# Altium integrated library Maxim Digital Potentiometers.IntLib: 1045 symbols (part 10 of 42)
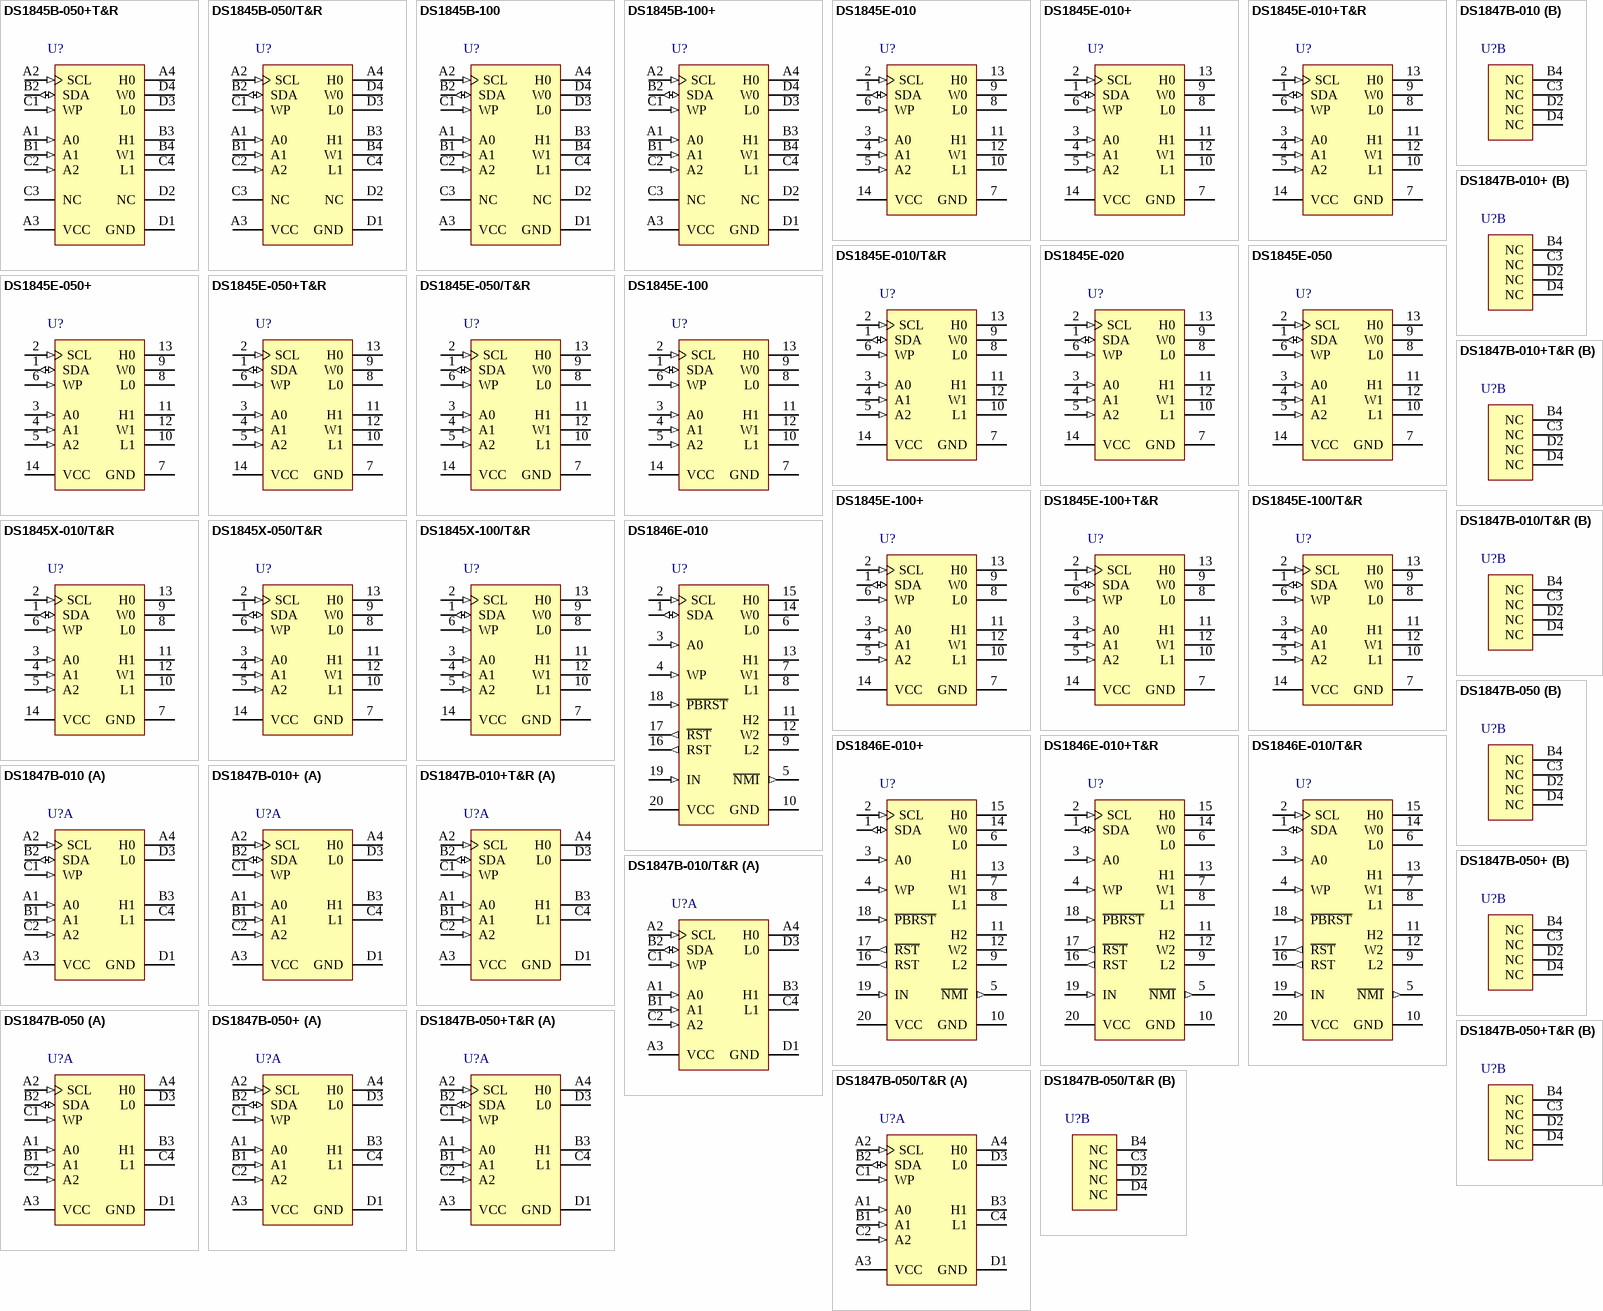
[diagram p38: symbols DS1845B-050+T&R to DS1847B-050/T&R]

## DS1845X-010/T&R
designator U?
Dual NV Potentiometer and Memory with 2-Wire Addressable Control Interface, Non-Volatile, Linear Taper, 100+256 Steps, -40 to 85 degC, 14-pin FCHIP (BF1422-1), Tape and Reel; PartNumber: DS1845X-010/T&R; DatasheetVersion: Rev. 3; PackageVersion: Rev. B, 09/2010; PackageReference: BF1422-1; PackageDescription: 14-Pin Flip-Chip, Used for DS1845X (BF1422-1), Body 2.11 x 2.34 mm, Pitch 0.52 mm; Supplier 1: Digi-Key; Supplier Part Number 1: DS1845X-010/T&R-ND; Supplier 2: Mouser; Supplier Part Number 2: N/A; Applications: Fiber Communications, GBIC; Control Interface: 2-Wire Addressable; Features: 256-Byte User EEPROM, EEPROM Wiper Memory; Mounting Technology: Surface Mount; ComponentLink1Description: Manufacturer URL; ComponentLink1URL: http://www.maximintegrated.com/; ComponentLink2Description: Datasheet; ComponentLink2URL: http://datasheets.maximintegrated.com/en/ds/DS1845.pdf; ComponentLink3Description: Package Specification; ComponentLink3URL: http://pdfserv.maximintegrated.com/package_dwgs/21-0285.PDF
footprint MAXM-BF1422-1 (BGA, Body 2.109 x 2.338 mm)
pins: 1 SDA (io) "2-Wire serial data interface. The serial data pin is for serial data transfer to and from the DS1855. The pin is open drain and may be wire-ORed with other open drain or open collector interfaces.", 2 SCL (in) "2-Wire Serial Clock Input. The serial clock input is used to clock data into the DS1855 on rising edges and clock data out on falling edges.", 3 A0 (in) "Address Input. Pins A0, A1, and A2 are used to specify the address of each DS1855 when used in a multi-dropped configuration. Up to eight DS1855s may be addressed on a single 2-wire bus.", 4 A1 (in) "Address Input.", 5 A2 (in) "Address Input.", 6 WP (in) "Write Protect Input. If set to logic 0, the data in memory and the potentiometer wiper setting may be changed. If set to logic 1, both the memory and the potentiometer wiper settings will be write protected. The WP pin is (See Datasheet)", 7 GND (power) "Ground Terminal.", 8 L0 "Low terminal of Potentiometer 0. For both potentiometers, it is not required that the low terminal be connected to a potential less than the high terminal. Voltage applied to the low terminal of each potentiometer cannot (See Datasheet)", 9 W0 "Wiper terminal of Pot 0. The wiper position of Potentiometer 0 is determined by the byte at EEPROM memory location F9h. Voltage applied to the wiper terminal of each potentiometer cannot exceed the power supply voltage, VCC, (See Datasheet)", 10 L1 "Low terminal of Potentiometer 1.", 11 H1 "High terminal of Potentiometer 1.", 12 W1 "Wiper terminal of Pot 1. The wiper position of Potentiometer 1 is determined by the byte at EEPROM memory location F8h.", 13 H0 "High terminal of Potentiometer 0. For both potentiometers, it is not required that the high terminal be connected to a potential greater than the low terminal. Voltage applied to the high terminal of each potentiometer (See Datasheet)", 14 VCC (power) "Power Supply Terminal. The DS1855 will support supply voltages ranging from +2.7V to +5.5V."

## DS1845X-050/T&R
designator U?
Dual NV Potentiometer and Memory with 2-Wire Addressable Control Interface, Non-Volatile, Linear Taper, 100+256 Steps, -40 to 85 degC, 14-pin FCHIP (BF1422-1), Tape and Reel; PartNumber: DS1845X-050/T&R; DatasheetVersion: Rev. 3; PackageVersion: Rev. B, 09/2010; PackageReference: BF1422-1; PackageDescription: 14-Pin Flip-Chip, Used for DS1845X (BF1422-1), Body 2.11 x 2.34 mm, Pitch 0.52 mm; Supplier 1: Digi-Key; Supplier Part Number 1: DS1845X-050/T&R-ND; Supplier 2: Mouser; Supplier Part Number 2: N/A; Applications: Fiber Communications, GBIC; Control Interface: 2-Wire Addressable; Features: 256-Byte User EEPROM, EEPROM Wiper Memory; Mounting Technology: Surface Mount; ComponentLink1Description: Manufacturer URL; ComponentLink1URL: http://www.maximintegrated.com/; ComponentLink2Description: Datasheet; ComponentLink2URL: http://datasheets.maximintegrated.com/en/ds/DS1845.pdf; ComponentLink3Description: Package Specification; ComponentLink3URL: http://pdfserv.maximintegrated.com/package_dwgs/21-0285.PDF
footprint MAXM-BF1422-1 (BGA, Body 2.109 x 2.338 mm)
pins: 1 SDA (io) "2-Wire serial data interface. The serial data pin is for serial data transfer to and from the DS1855. The pin is open drain and may be wire-ORed with other open drain or open collector interfaces.", 2 SCL (in) "2-Wire Serial Clock Input. The serial clock input is used to clock data into the DS1855 on rising edges and clock data out on falling edges.", 3 A0 (in) "Address Input. Pins A0, A1, and A2 are used to specify the address of each DS1855 when used in a multi-dropped configuration. Up to eight DS1855s may be addressed on a single 2-wire bus.", 4 A1 (in) "Address Input.", 5 A2 (in) "Address Input.", 6 WP (in) "Write Protect Input. If set to logic 0, the data in memory and the potentiometer wiper setting may be changed. If set to logic 1, both the memory and the potentiometer wiper settings will be write protected. The WP pin is (See Datasheet)", 7 GND (power) "Ground Terminal.", 8 L0 "Low terminal of Potentiometer 0. For both potentiometers, it is not required that the low terminal be connected to a potential less than the high terminal. Voltage applied to the low terminal of each potentiometer cannot (See Datasheet)", 9 W0 "Wiper terminal of Pot 0. The wiper position of Potentiometer 0 is determined by the byte at EEPROM memory location F9h. Voltage applied to the wiper terminal of each potentiometer cannot exceed the power supply voltage, VCC, (See Datasheet)", 10 L1 "Low terminal of Potentiometer 1.", 11 H1 "High terminal of Potentiometer 1.", 12 W1 "Wiper terminal of Pot 1. The wiper position of Potentiometer 1 is determined by the byte at EEPROM memory location F8h.", 13 H0 "High terminal of Potentiometer 0. For both potentiometers, it is not required that the high terminal be connected to a potential greater than the low terminal. Voltage applied to the high terminal of each potentiometer (See Datasheet)", 14 VCC (power) "Power Supply Terminal. The DS1855 will support supply voltages ranging from +2.7V to +5.5V."

## DS1845X-100/T&R
designator U?
Dual NV Potentiometer and Memory with 2-Wire Addressable Control Interface, Non-Volatile, Linear Taper, 100+256 Steps, -40 to 85 degC, 14-pin FCHIP (BF1422-1), Tape and Reel; PartNumber: DS1845X-100/T&R; DatasheetVersion: Rev. 3; PackageVersion: Rev. B, 09/2010; PackageReference: BF1422-1; PackageDescription: 14-Pin Flip-Chip, Used for DS1845X (BF1422-1), Body 2.11 x 2.34 mm, Pitch 0.52 mm; Supplier 1: Digi-Key; Supplier Part Number 1: DS1845X-100/T&R-ND; Supplier 2: Mouser; Supplier Part Number 2: N/A; Applications: Fiber Communications, GBIC; Control Interface: 2-Wire Addressable; Features: 256-Byte User EEPROM, EEPROM Wiper Memory; Mounting Technology: Surface Mount; ComponentLink1Description: Manufacturer URL; ComponentLink1URL: http://www.maximintegrated.com/; ComponentLink2Description: Datasheet; ComponentLink2URL: http://datasheets.maximintegrated.com/en/ds/DS1845.pdf; ComponentLink3Description: Package Specification; ComponentLink3URL: http://pdfserv.maximintegrated.com/package_dwgs/21-0285.PDF
footprint MAXM-BF1422-1 (BGA, Body 2.109 x 2.338 mm)
pins: 1 SDA (io) "2-Wire serial data interface. The serial data pin is for serial data transfer to and from the DS1855. The pin is open drain and may be wire-ORed with other open drain or open collector interfaces.", 2 SCL (in) "2-Wire Serial Clock Input. The serial clock input is used to clock data into the DS1855 on rising edges and clock data out on falling edges.", 3 A0 (in) "Address Input. Pins A0, A1, and A2 are used to specify the address of each DS1855 when used in a multi-dropped configuration. Up to eight DS1855s may be addressed on a single 2-wire bus.", 4 A1 (in) "Address Input.", 5 A2 (in) "Address Input.", 6 WP (in) "Write Protect Input. If set to logic 0, the data in memory and the potentiometer wiper setting may be changed. If set to logic 1, both the memory and the potentiometer wiper settings will be write protected. The WP pin is (See Datasheet)", 7 GND (power) "Ground Terminal.", 8 L0 "Low terminal of Potentiometer 0. For both potentiometers, it is not required that the low terminal be connected to a potential less than the high terminal. Voltage applied to the low terminal of each potentiometer cannot (See Datasheet)", 9 W0 "Wiper terminal of Pot 0. The wiper position of Potentiometer 0 is determined by the byte at EEPROM memory location F9h. Voltage applied to the wiper terminal of each potentiometer cannot exceed the power supply voltage, VCC, (See Datasheet)", 10 L1 "Low terminal of Potentiometer 1.", 11 H1 "High terminal of Potentiometer 1.", 12 W1 "Wiper terminal of Pot 1. The wiper position of Potentiometer 1 is determined by the byte at EEPROM memory location F8h.", 13 H0 "High terminal of Potentiometer 0. For both potentiometers, it is not required that the high terminal be connected to a potential greater than the low terminal. Voltage applied to the high terminal of each potentiometer (See Datasheet)", 14 VCC (power) "Power Supply Terminal. The DS1855 will support supply voltages ranging from +2.7V to +5.5V."

## DS1846E-010
designator U?
Tri-Potentiometer, Memory, and MicroMonitor with 2-Wire Addressable Control Interface, Non-Volatile, Linear Taper, 100+256 Steps, -40 to 85 degC, 20-pin TSSOP (U20-1); PartNumber: DS1846E-010; DatasheetVersion: Rev. 1; PackageVersion: Rev. L, 07/2010; PackageReference: U20-1; PackageDescription: 20-Pin Thin Shrink Small-Outline Package (U20-1), Body 6.5 x 4.4 mm, Pitch 0.65 mm; Supplier 1: Mouser; Supplier Part Number 1: N/A; Applications: Fiber Communications, Microprocessor Reset ,Pwr-Fail Detect; Control Interface: 2-Wire Addressable; Features: 256-Byte User EEPROM, EEPROM Wiper Memory; Mounting Technology: Surface Mount; Code_JEDEC: MO-153; ComponentLink1Description: Manufacturer URL; ComponentLink1URL: http://www.maximintegrated.com/; ComponentLink2Description: Datasheet; ComponentLink2URL: http://datasheets.maximintegrated.com/en/ds/DS1846.pdf; ComponentLink3Description: Package Specification; ComponentLink3URL: http://pdfserv.maximintegrated.com/package_dwgs/21-0066.PDF
footprint MAXM-U20-1_N (SOP, 20-Leads, Body 6.5x4.40mm, Pitch 0.65mm, IPC Medium Density)
footprint MAXM-U20-1_L (SOP, 20-Leads, Body 6.5x4.40mm, Pitch 0.65mm, IPC High Density)
footprint MAXM-U20-1_M (SOP, 20-Leads, Body 6.5x4.40mm, Pitch 0.65mm, IPC Low Density)
pins: 1 SDA (io) "2-Wire Serial Data Input/Output", 2 SCL (in) "2-Wire Serial Clock Input", 3 A0 (in) "Address Input", 4 WP (in) "Write-Protect Input", 5 ~{NMI} (out) "Nonmaskable Interrupt Output", 6 L0 "Low End of Potentiometer", 7 W1 "Wiper Terminal of Potentiometer", 8 L1 "Low End of Potentiometer", 9 L2 "Low End of Potentiometer", 10 GND (power) "Ground", 11 H2 "High End of Potentiometer", 12 W2 "Wiper Terminal of Potentiometer", 13 H1 "High End of Potentiometer", 14 W0 "Wiper Terminal of Potentiometer", 15 H0 "High End of Potentiometer", 16 RST (out) "Active-High Reset Output", 17 ~{RST} (out) "Active-Low Reset Output", 18 ~{PBRST} (in) "Pushbutton Reset Input", 19 IN (in) "NMI Voltage Input", 20 VCC (power) "Power-Supply Input"

## DS1846E-010+
designator U?
Tri-Potentiometer, Memory, and MicroMonitor with 2-Wire Addressable Control Interface, Non-Volatile, Linear Taper, 100+256 Steps, -40 to 85 degC, 20-pin TSSOP (U20+1), Pb-Free; PartNumber: DS1846E-010+; DatasheetVersion: Rev. 1; PackageVersion: Rev. L, 07/2010; PackageReference: U20+1; PackageDescription: 20-Pin Thin Shrink Small-Outline Package (U20+1), Body 6.5 x4.4 mm, Pitch 0.65 mm; Supplier 1: Digi-Key; Supplier Part Number 1: DS1846E-010+-ND; Supplier 2: Mouser; Supplier Part Number 2: 700-DS1846E-010; Applications: Fiber Communications, Microprocessor Reset ,Pwr-Fail Detect; Control Interface: 2-Wire Addressable; Features: 256-Byte User EEPROM, EEPROM Wiper Memory; Mounting Technology: Surface Mount; Code_JEDEC: MO-153; ComponentLink1Description: Manufacturer URL; ComponentLink1URL: http://www.maximintegrated.com/; ComponentLink2Description: Datasheet; ComponentLink2URL: http://datasheets.maximintegrated.com/en/ds/DS1846.pdf; ComponentLink3Description: Package Specification; ComponentLink3URL: http://pdfserv.maximintegrated.com/package_dwgs/21-0066.PDF
footprint MAXM-U20+1_N (SOP, 20-Leads, Body 6.5x4.4mm, Pitch 0.65mm, IPC Medium Density)
footprint MAXM-U20+1_L (SOP, 20-Leads, Body 6.5x4.4mm, Pitch 0.65mm, IPC High Density)
footprint MAXM-U20+1_M (SOP, 20-Leads, Body 6.5x4.4mm, Pitch 0.65mm, IPC Low Density)
pins: 1 SDA (io) "2-Wire Serial Data Input/Output", 2 SCL (in) "2-Wire Serial Clock Input", 3 A0 (in) "Address Input", 4 WP (in) "Write-Protect Input", 5 ~{NMI} (out) "Nonmaskable Interrupt Output", 6 L0 "Low End of Potentiometer", 7 W1 "Wiper Terminal of Potentiometer", 8 L1 "Low End of Potentiometer", 9 L2 "Low End of Potentiometer", 10 GND (power) "Ground", 11 H2 "High End of Potentiometer", 12 W2 "Wiper Terminal of Potentiometer", 13 H1 "High End of Potentiometer", 14 W0 "Wiper Terminal of Potentiometer", 15 H0 "High End of Potentiometer", 16 RST (out) "Active-High Reset Output", 17 ~{RST} (out) "Active-Low Reset Output", 18 ~{PBRST} (in) "Pushbutton Reset Input", 19 IN (in) "NMI Voltage Input", 20 VCC (power) "Power-Supply Input"

## DS1846E-010+T&R
designator U?
Tri-Potentiometer, Memory and MicroMonitor with 2-Wire Addressable Control Interface, Non-Volatile, Linear Taper, 100+256 Steps, -40 to 85 degC, 20-pin TSSOP (U20+1), Pb-Free, Tape and Reel; PartNumber: DS1846E-010+T&R; DatasheetVersion: Rev. 1; PackageVersion: Rev. L, 07/2010; PackageReference: U20+1; PackageDescription: 20-Pin Thin Shrink Small-Outline Package (U20+1), Body 6.5 x4.4 mm, Pitch 0.65 mm; Supplier 1: Digi-Key; Supplier Part Number 1: DS1846E-010+T&R-ND; Supplier 2: Mouser; Supplier Part Number 2: 700-DS1846E-010T&R; Applications: Fiber Communications, Microprocessor Reset ,Pwr-Fail Detect; Control Interface: 2-Wire Addressable; Features: 256-Byte User EEPROM, EEPROM Wiper Memory; Mounting Technology: Surface Mount; Code_JEDEC: MO-153; ComponentLink1Description: Manufacturer URL; ComponentLink1URL: http://www.maximintegrated.com/; ComponentLink2Description: Datasheet; ComponentLink2URL: http://datasheets.maximintegrated.com/en/ds/DS1846.pdf; ComponentLink3Description: Package Specification; ComponentLink3URL: http://pdfserv.maximintegrated.com/package_dwgs/21-0066.PDF
footprint MAXM-U20+1_N (SOP, 20-Leads, Body 6.5x4.4mm, Pitch 0.65mm, IPC Medium Density)
footprint MAXM-U20+1_L (SOP, 20-Leads, Body 6.5x4.4mm, Pitch 0.65mm, IPC High Density)
footprint MAXM-U20+1_M (SOP, 20-Leads, Body 6.5x4.4mm, Pitch 0.65mm, IPC Low Density)
pins: 1 SDA (io) "2-Wire Serial Data Input/Output", 2 SCL (in) "2-Wire Serial Clock Input", 3 A0 (in) "Address Input", 4 WP (in) "Write-Protect Input", 5 ~{NMI} (out) "Nonmaskable Interrupt Output", 6 L0 "Low End of Potentiometer", 7 W1 "Wiper Terminal of Potentiometer", 8 L1 "Low End of Potentiometer", 9 L2 "Low End of Potentiometer", 10 GND (power) "Ground", 11 H2 "High End of Potentiometer", 12 W2 "Wiper Terminal of Potentiometer", 13 H1 "High End of Potentiometer", 14 W0 "Wiper Terminal of Potentiometer", 15 H0 "High End of Potentiometer", 16 RST (out) "Active-High Reset Output", 17 ~{RST} (out) "Active-Low Reset Output", 18 ~{PBRST} (in) "Pushbutton Reset Input", 19 IN (in) "NMI Voltage Input", 20 VCC (power) "Power-Supply Input"

## DS1846E-010/T&R
designator U?
Tri-Potentiometer, Memory and MicroMonitor with 2-Wire Addressable Control Interface, Non-Volatile, Linear Taper, 100+256 Steps, -40 to 85 degC, 20-pin TSSOP (U20-1), Tape and Reel; PartNumber: DS1846E-010/T&R; DatasheetVersion: Rev. 1; PackageVersion: Rev. L, 07/2010; PackageReference: U20-1; PackageDescription: 20-Pin Thin Shrink Small-Outline Package (U20-1), Body 6.5 x 4.4 mm, Pitch 0.65 mm; Applications: Fiber Communications, Microprocessor Reset ,Pwr-Fail Detect; Control Interface: 2-Wire Addressable; Features: 256-Byte User EEPROM, EEPROM Wiper Memory; Mounting Technology: Surface Mount; Code_JEDEC: MO-153; ComponentLink1Description: Manufacturer URL; ComponentLink1URL: http://www.maximintegrated.com/; ComponentLink2Description: Datasheet; ComponentLink2URL: http://datasheets.maximintegrated.com/en/ds/DS1846.pdf; ComponentLink3Description: Package Specification; ComponentLink3URL: http://pdfserv.maximintegrated.com/package_dwgs/21-0066.PDF
footprint MAXM-U20-1_N (SOP, 20-Leads, Body 6.5x4.40mm, Pitch 0.65mm, IPC Medium Density)
footprint MAXM-U20-1_L (SOP, 20-Leads, Body 6.5x4.40mm, Pitch 0.65mm, IPC High Density)
footprint MAXM-U20-1_M (SOP, 20-Leads, Body 6.5x4.40mm, Pitch 0.65mm, IPC Low Density)
pins: 1 SDA (io) "2-Wire Serial Data Input/Output", 2 SCL (in) "2-Wire Serial Clock Input", 3 A0 (in) "Address Input", 4 WP (in) "Write-Protect Input", 5 ~{NMI} (out) "Nonmaskable Interrupt Output", 6 L0 "Low End of Potentiometer", 7 W1 "Wiper Terminal of Potentiometer", 8 L1 "Low End of Potentiometer", 9 L2 "Low End of Potentiometer", 10 GND (power) "Ground", 11 H2 "High End of Potentiometer", 12 W2 "Wiper Terminal of Potentiometer", 13 H1 "High End of Potentiometer", 14 W0 "Wiper Terminal of Potentiometer", 15 H0 "High End of Potentiometer", 16 RST (out) "Active-High Reset Output", 17 ~{RST} (out) "Active-Low Reset Output", 18 ~{PBRST} (in) "Pushbutton Reset Input", 19 IN (in) "NMI Voltage Input", 20 VCC (power) "Power-Supply Input"

## DS1847B-010
designator U?
Dual Temperature-Controlled NV Variable Resistor with 2-Wire Addressable Control Interface, Non-Volatile, Linear Taper, 256 Steps, -40 to 85 degC, 16-pin CSBGA (X16-1); PartNumber: DS1847B-010; DatasheetVersion: Rev. 2; PackageVersion: Rev. B, 06/2010; PackageReference: X16-1; PackageDescription: 16-Ball Chip-Scale Ball-Grid Array (X16-1), Body 4 x 4 mm, Pitch 1.0 mm; Supplier 1: Mouser; Supplier Part Number 1: N/A; Applications: Fiber Communications, Resistance-Temp. Lookup Table; Control Interface: 2-Wire Addressable; Features: 128-Byte User EEPROM, EEPROM Wiper Memory ,Resistance-Temp. Lookup Table; Mounting Technology: Surface Mount; ComponentLink1Description: Manufacturer URL; ComponentLink1URL: http://www.maximintegrated.com/; ComponentLink2Description: Datasheet; ComponentLink2URL: http://datasheets.maximintegrated.com/en/ds/DS1847.pdf; ComponentLink3Description: Package Specification; ComponentLink3URL: http://pdfserv.maximintegrated.com/package_dwgs/21-0355.PDF
footprint MAXM-X16-1 (BGA, 16-Balls, Body 4x4mm, Pitch 1.0mm)
part A pins: A1 A0 (in) "Address Input. Pins A0, A1, and A2 are used to specify the address of each DS1847/DS1848 when used in a multi-dropped configuration.", A2 SCL (in) "2-Wire Serial Clock Input. The serial clock input is used to clock data into the DS1847/DS1848 on rising edges and clock data out on falling edges.", A3 VCC (power) "Power Supply Terminal. The DS1847/DS1848 will support supply voltages ranging from +3.0V to +5.5V.", A4 H0 "High terminal of Resistor 0. For both resistors, it is not required that the high terminal be connected to a potential greater than the low terminal. Voltage applied to the high terminal of each resistor cannot exceed VCC, (See Datasheet)", B1 A1 (in) "Address Input.", B2 SDA (io) "2-Wire Serial Data Interface. The serial data pin is for serial data transfer to and from the DS1847/DS1848. The pin is open drain and maybe wire-ORed with other open drain or open collector interfaces.", B3 H1 "High terminal of Resistor 1.", C1 WP (in) "Write Protect Input. If open or set to logic 1, all memory, control registers, and Look-up tables are write protected. If set to a logic 0, the device is not write protected and can be written to. The WP pin is pulled high (See Datasheet)", C2 A2 (in) "Address Input.", C4 L1 "Low terminal of Resistor 1.", D1 GND (power) "Ground Terminal.", D3 L0 "Low terminal of Resistor 0. For both resistors, it is not required that the low terminal be connected to a potential less than the high terminal. Voltage applied to the low terminal of each resistor cannot exceed VCC, or go (See Datasheet)"
part B pins: B4 NC "No Connect.", C3 NC "No Connect.", D2 NC "No Connect.", D4 NC "No Connect."

## DS1847B-010+
designator U?
Dual Temperature-Controlled NV Variable Resistor with 2-Wire Addressable Control Interface, Non-Volatile, Linear Taper, 256 Steps, -40 to 85 degC, 16-pin CSBGA (X16+1), Pb-Free; PartNumber: DS1847B-010+; DatasheetVersion: Rev. 2; PackageVersion: Rev. B, 06/2010; PackageReference: X16+1; PackageDescription: 16-Ball Chip-Scale Ball-Grid Array (X16+1), Body 4 x 4 mm, Pitch 1.0 mm; Supplier 1: Digi-Key; Supplier Part Number 1: DS1847B-010+-ND; Supplier 2: Mouser; Supplier Part Number 2: 700-DS1847B-010; Applications: Fiber Communications, Resistance-Temp. Lookup Table; Control Interface: 2-Wire Addressable; Features: 128-Byte User EEPROM, EEPROM Wiper Memory ,Resistance-Temp. Lookup Table; Mounting Technology: Surface Mount; ComponentLink1Description: Manufacturer URL; ComponentLink1URL: http://www.maximintegrated.com/; ComponentLink2Description: Datasheet; ComponentLink2URL: http://datasheets.maximintegrated.com/en/ds/DS1847.pdf; ComponentLink3Description: Package Specification; ComponentLink3URL: http://pdfserv.maximintegrated.com/package_dwgs/21-0355.PDF
footprint MAXM-X16+1 (BGA, 16-Balls, Body 4x4mm, Pitch 1.0mm)
part A pins: A1 A0 (in) "Address Input. Pins A0, A1, and A2 are used to specify the address of each DS1847/DS1848 when used in a multi-dropped configuration.", A2 SCL (in) "2-Wire Serial Clock Input. The serial clock input is used to clock data into the DS1847/DS1848 on rising edges and clock data out on falling edges.", A3 VCC (power) "Power Supply Terminal. The DS1847/DS1848 will support supply voltages ranging from +3.0V to +5.5V.", A4 H0 "High terminal of Resistor 0. For both resistors, it is not required that the high terminal be connected to a potential greater than the low terminal. Voltage applied to the high terminal of each resistor cannot exceed VCC, (See Datasheet)", B1 A1 (in) "Address Input.", B2 SDA (io) "2-Wire Serial Data Interface. The serial data pin is for serial data transfer to and from the DS1847/DS1848. The pin is open drain and maybe wire-ORed with other open drain or open collector interfaces.", B3 H1 "High terminal of Resistor 1.", C1 WP (in) "Write Protect Input. If open or set to logic 1, all memory, control registers, and Look-up tables are write protected. If set to a logic 0, the device is not write protected and can be written to. The WP pin is pulled high (See Datasheet)", C2 A2 (in) "Address Input.", C4 L1 "Low terminal of Resistor 1.", D1 GND (power) "Ground Terminal.", D3 L0 "Low terminal of Resistor 0. For both resistors, it is not required that the low terminal be connected to a potential less than the high terminal. Voltage applied to the low terminal of each resistor cannot exceed VCC, or go (See Datasheet)"
part B pins: B4 NC "No Connect.", C3 NC "No Connect.", D2 NC "No Connect.", D4 NC "No Connect."

## DS1847B-010+T&R
designator U?
Dual Temperature-Controlled NV Variable Resistor with 2-Wire Addressable Control Interface, Non-Volatile, Linear Taper, 256 Steps, -40 to 85 degC, 16-pin CSBGA (X16+1), Pb-Free, Tape and Reel; PartNumber: DS1847B-010+T&R; DatasheetVersion: Rev. 2; PackageVersion: Rev. B, 06/2010; PackageReference: X16+1; PackageDescription: 16-Ball Chip-Scale Ball-Grid Array (X16+1), Body 4 x 4 mm, Pitch 1.0 mm; Supplier 1: Digi-Key; Supplier Part Number 1: DS1847B-010+T&R-ND; Supplier 2: Mouser; Supplier Part Number 2: 700-DS1847B-010T&R; Applications: Fiber Communications, Resistance-Temp. Lookup Table; Control Interface: 2-Wire Addressable; Features: 128-Byte User EEPROM, EEPROM Wiper Memory ,Resistance-Temp. Lookup Table; Mounting Technology: Surface Mount; ComponentLink1Description: Manufacturer URL; ComponentLink1URL: http://www.maximintegrated.com/; ComponentLink2Description: Datasheet; ComponentLink2URL: http://datasheets.maximintegrated.com/en/ds/DS1847.pdf; ComponentLink3Description: Package Specification; ComponentLink3URL: http://pdfserv.maximintegrated.com/package_dwgs/21-0355.PDF
footprint MAXM-X16+1 (BGA, 16-Balls, Body 4x4mm, Pitch 1.0mm)
part A pins: A1 A0 (in) "Address Input. Pins A0, A1, and A2 are used to specify the address of each DS1847/DS1848 when used in a multi-dropped configuration.", A2 SCL (in) "2-Wire Serial Clock Input. The serial clock input is used to clock data into the DS1847/DS1848 on rising edges and clock data out on falling edges.", A3 VCC (power) "Power Supply Terminal. The DS1847/DS1848 will support supply voltages ranging from +3.0V to +5.5V.", A4 H0 "High terminal of Resistor 0. For both resistors, it is not required that the high terminal be connected to a potential greater than the low terminal. Voltage applied to the high terminal of each resistor cannot exceed VCC, (See Datasheet)", B1 A1 (in) "Address Input.", B2 SDA (io) "2-Wire Serial Data Interface. The serial data pin is for serial data transfer to and from the DS1847/DS1848. The pin is open drain and maybe wire-ORed with other open drain or open collector interfaces.", B3 H1 "High terminal of Resistor 1.", C1 WP (in) "Write Protect Input. If open or set to logic 1, all memory, control registers, and Look-up tables are write protected. If set to a logic 0, the device is not write protected and can be written to. The WP pin is pulled high (See Datasheet)", C2 A2 (in) "Address Input.", C4 L1 "Low terminal of Resistor 1.", D1 GND (power) "Ground Terminal.", D3 L0 "Low terminal of Resistor 0. For both resistors, it is not required that the low terminal be connected to a potential less than the high terminal. Voltage applied to the low terminal of each resistor cannot exceed VCC, or go (See Datasheet)"
part B pins: B4 NC "No Connect.", C3 NC "No Connect.", D2 NC "No Connect.", D4 NC "No Connect."

## DS1847B-010/T&R
designator U?
Dual Temperature-Controlled NV Variable Resistor with 2-Wire Addressable Control Interface, Non-Volatile, Linear Taper, 256 Steps, -40 to 85 degC, 16-pin CSBGA (X16-1), Tape and Reel; PartNumber: DS1847B-010/T&R; DatasheetVersion: Rev. 2; PackageVersion: Rev. B, 06/2010; PackageReference: X16-1; PackageDescription: 16-Ball Chip-Scale Ball-Grid Array (X16-1), Body 4 x 4 mm, Pitch 1.0 mm; Supplier 1: Mouser; Supplier Part Number 1: N/A; Applications: Fiber Communications, Resistance-Temp. Lookup Table; Control Interface: 2-Wire Addressable; Features: 128-Byte User EEPROM, EEPROM Wiper Memory ,Resistance-Temp. Lookup Table; Mounting Technology: Surface Mount; ComponentLink1Description: Manufacturer URL; ComponentLink1URL: http://www.maximintegrated.com/; ComponentLink2Description: Datasheet; ComponentLink2URL: http://datasheets.maximintegrated.com/en/ds/DS1847.pdf; ComponentLink3Description: Package Specification; ComponentLink3URL: http://pdfserv.maximintegrated.com/package_dwgs/21-0355.PDF
footprint MAXM-X16-1 (BGA, 16-Balls, Body 4x4mm, Pitch 1.0mm)
part A pins: A1 A0 (in) "Address Input. Pins A0, A1, and A2 are used to specify the address of each DS1847/DS1848 when used in a multi-dropped configuration.", A2 SCL (in) "2-Wire Serial Clock Input. The serial clock input is used to clock data into the DS1847/DS1848 on rising edges and clock data out on falling edges.", A3 VCC (power) "Power Supply Terminal. The DS1847/DS1848 will support supply voltages ranging from +3.0V to +5.5V.", A4 H0 "High terminal of Resistor 0. For both resistors, it is not required that the high terminal be connected to a potential greater than the low terminal. Voltage applied to the high terminal of each resistor cannot exceed VCC, (See Datasheet)", B1 A1 (in) "Address Input.", B2 SDA (io) "2-Wire Serial Data Interface. The serial data pin is for serial data transfer to and from the DS1847/DS1848. The pin is open drain and maybe wire-ORed with other open drain or open collector interfaces.", B3 H1 "High terminal of Resistor 1.", C1 WP (in) "Write Protect Input. If open or set to logic 1, all memory, control registers, and Look-up tables are write protected. If set to a logic 0, the device is not write protected and can be written to. The WP pin is pulled high (See Datasheet)", C2 A2 (in) "Address Input.", C4 L1 "Low terminal of Resistor 1.", D1 GND (power) "Ground Terminal.", D3 L0 "Low terminal of Resistor 0. For both resistors, it is not required that the low terminal be connected to a potential less than the high terminal. Voltage applied to the low terminal of each resistor cannot exceed VCC, or go (See Datasheet)"
part B pins: B4 NC "No Connect.", C3 NC "No Connect.", D2 NC "No Connect.", D4 NC "No Connect."

## DS1847B-050
designator U?
Dual Temperature-Controlled NV Variable Resistor with 2-Wire Addressable Control Interface, Non-Volatile, Linear Taper, 256 Steps, -40 to 85 degC, 16-pin CSBGA (X16-1); PartNumber: DS1847B-050; DatasheetVersion: Rev. 2; PackageVersion: Rev. B, 06/2010; PackageReference: X16-1; PackageDescription: 16-Ball Chip-Scale Ball-Grid Array (X16-1), Body 4 x 4 mm, Pitch 1.0 mm; Supplier 1: Mouser; Supplier Part Number 1: N/A; Applications: Fiber Communications, Resistance-Temp. Lookup Table; Control Interface: 2-Wire Addressable; Features: 128-Byte User EEPROM, EEPROM Wiper Memory ,Resistance-Temp. Lookup Table; Mounting Technology: Surface Mount; ComponentLink1Description: Manufacturer URL; ComponentLink1URL: http://www.maximintegrated.com/; ComponentLink2Description: Datasheet; ComponentLink2URL: http://datasheets.maximintegrated.com/en/ds/DS1847.pdf; ComponentLink3Description: Package Specification; ComponentLink3URL: http://pdfserv.maximintegrated.com/package_dwgs/21-0355.PDF
footprint MAXM-X16-1 (BGA, 16-Balls, Body 4x4mm, Pitch 1.0mm)
part A pins: A1 A0 (in) "Address Input. Pins A0, A1, and A2 are used to specify the address of each DS1847/DS1848 when used in a multi-dropped configuration.", A2 SCL (in) "2-Wire Serial Clock Input. The serial clock input is used to clock data into the DS1847/DS1848 on rising edges and clock data out on falling edges.", A3 VCC (power) "Power Supply Terminal. The DS1847/DS1848 will support supply voltages ranging from +3.0V to +5.5V.", A4 H0 "High terminal of Resistor 0. For both resistors, it is not required that the high terminal be connected to a potential greater than the low terminal. Voltage applied to the high terminal of each resistor cannot exceed VCC, (See Datasheet)", B1 A1 (in) "Address Input.", B2 SDA (io) "2-Wire Serial Data Interface. The serial data pin is for serial data transfer to and from the DS1847/DS1848. The pin is open drain and maybe wire-ORed with other open drain or open collector interfaces.", B3 H1 "High terminal of Resistor 1.", C1 WP (in) "Write Protect Input. If open or set to logic 1, all memory, control registers, and Look-up tables are write protected. If set to a logic 0, the device is not write protected and can be written to. The WP pin is pulled high (See Datasheet)", C2 A2 (in) "Address Input.", C4 L1 "Low terminal of Resistor 1.", D1 GND (power) "Ground Terminal.", D3 L0 "Low terminal of Resistor 0. For both resistors, it is not required that the low terminal be connected to a potential less than the high terminal. Voltage applied to the low terminal of each resistor cannot exceed VCC, or go (See Datasheet)"
part B pins: B4 NC "No Connect.", C3 NC "No Connect.", D2 NC "No Connect.", D4 NC "No Connect."

## DS1847B-050+
designator U?
Dual Temperature-Controlled NV Variable Resistor with 2-Wire Addressable Control Interface, Non-Volatile, Linear Taper, 256 Steps, -40 to 85 degC, 16-pin CSBGA (X16+1), Pb-Free; PartNumber: DS1847B-050+; DatasheetVersion: Rev. 2; PackageVersion: Rev. B, 06/2010; PackageReference: X16+1; PackageDescription: 16-Ball Chip-Scale Ball-Grid Array (X16+1), Body 4 x 4 mm, Pitch 1.0 mm; Supplier 1: Digi-Key; Supplier Part Number 1: DS1847B-050+-ND; Supplier 2: Mouser; Supplier Part Number 2: 700-DS1847B-050; Applications: Fiber Communications, Resistance-Temp. Lookup Table; Control Interface: 2-Wire Addressable; Features: 128-Byte User EEPROM, EEPROM Wiper Memory ,Resistance-Temp. Lookup Table; Mounting Technology: Surface Mount; ComponentLink1Description: Manufacturer URL; ComponentLink1URL: http://www.maximintegrated.com/; ComponentLink2Description: Datasheet; ComponentLink2URL: http://datasheets.maximintegrated.com/en/ds/DS1847.pdf; ComponentLink3Description: Package Specification; ComponentLink3URL: http://pdfserv.maximintegrated.com/package_dwgs/21-0355.PDF
footprint MAXM-X16+1 (BGA, 16-Balls, Body 4x4mm, Pitch 1.0mm)
part A pins: A1 A0 (in) "Address Input. Pins A0, A1, and A2 are used to specify the address of each DS1847/DS1848 when used in a multi-dropped configuration.", A2 SCL (in) "2-Wire Serial Clock Input. The serial clock input is used to clock data into the DS1847/DS1848 on rising edges and clock data out on falling edges.", A3 VCC (power) "Power Supply Terminal. The DS1847/DS1848 will support supply voltages ranging from +3.0V to +5.5V.", A4 H0 "High terminal of Resistor 0. For both resistors, it is not required that the high terminal be connected to a potential greater than the low terminal. Voltage applied to the high terminal of each resistor cannot exceed VCC, (See Datasheet)", B1 A1 (in) "Address Input.", B2 SDA (io) "2-Wire Serial Data Interface. The serial data pin is for serial data transfer to and from the DS1847/DS1848. The pin is open drain and maybe wire-ORed with other open drain or open collector interfaces.", B3 H1 "High terminal of Resistor 1.", C1 WP (in) "Write Protect Input. If open or set to logic 1, all memory, control registers, and Look-up tables are write protected. If set to a logic 0, the device is not write protected and can be written to. The WP pin is pulled high (See Datasheet)", C2 A2 (in) "Address Input.", C4 L1 "Low terminal of Resistor 1.", D1 GND (power) "Ground Terminal.", D3 L0 "Low terminal of Resistor 0. For both resistors, it is not required that the low terminal be connected to a potential less than the high terminal. Voltage applied to the low terminal of each resistor cannot exceed VCC, or go (See Datasheet)"
part B pins: B4 NC "No Connect.", C3 NC "No Connect.", D2 NC "No Connect.", D4 NC "No Connect."

## DS1847B-050+T&R
designator U?
Dual Temperature-Controlled NV Variable Resistor with 2-Wire Addressable Control Interface, Non-Volatile, Linear Taper, 256 Steps, -40 to 85 degC, 16-pin CSBGA (X16+1), Pb-Free, Tape and Reel; PartNumber: DS1847B-050+T&R; DatasheetVersion: Rev. 2; PackageVersion: Rev. B, 06/2010; PackageReference: X16+1; PackageDescription: 16-Ball Chip-Scale Ball-Grid Array (X16+1), Body 4 x 4 mm, Pitch 1.0 mm; Supplier 1: Digi-Key; Supplier Part Number 1: DS1847B-050+T&R-ND; Supplier 2: Mouser; Supplier Part Number 2: 700-DS1847B-050T&R; Applications: Fiber Communications, Resistance-Temp. Lookup Table; Control Interface: 2-Wire Addressable; Features: 128-Byte User EEPROM, EEPROM Wiper Memory ,Resistance-Temp. Lookup Table; Mounting Technology: Surface Mount; ComponentLink1Description: Manufacturer URL; ComponentLink1URL: http://www.maximintegrated.com/; ComponentLink2Description: Datasheet; ComponentLink2URL: http://datasheets.maximintegrated.com/en/ds/DS1847.pdf; ComponentLink3Description: Package Specification; ComponentLink3URL: http://pdfserv.maximintegrated.com/package_dwgs/21-0355.PDF
footprint MAXM-X16+1 (BGA, 16-Balls, Body 4x4mm, Pitch 1.0mm)
part A pins: A1 A0 (in) "Address Input. Pins A0, A1, and A2 are used to specify the address of each DS1847/DS1848 when used in a multi-dropped configuration.", A2 SCL (in) "2-Wire Serial Clock Input. The serial clock input is used to clock data into the DS1847/DS1848 on rising edges and clock data out on falling edges.", A3 VCC (power) "Power Supply Terminal. The DS1847/DS1848 will support supply voltages ranging from +3.0V to +5.5V.", A4 H0 "High terminal of Resistor 0. For both resistors, it is not required that the high terminal be connected to a potential greater than the low terminal. Voltage applied to the high terminal of each resistor cannot exceed VCC, (See Datasheet)", B1 A1 (in) "Address Input.", B2 SDA (io) "2-Wire Serial Data Interface. The serial data pin is for serial data transfer to and from the DS1847/DS1848. The pin is open drain and maybe wire-ORed with other open drain or open collector interfaces.", B3 H1 "High terminal of Resistor 1.", C1 WP (in) "Write Protect Input. If open or set to logic 1, all memory, control registers, and Look-up tables are write protected. If set to a logic 0, the device is not write protected and can be written to. The WP pin is pulled high (See Datasheet)", C2 A2 (in) "Address Input.", C4 L1 "Low terminal of Resistor 1.", D1 GND (power) "Ground Terminal.", D3 L0 "Low terminal of Resistor 0. For both resistors, it is not required that the low terminal be connected to a potential less than the high terminal. Voltage applied to the low terminal of each resistor cannot exceed VCC, or go (See Datasheet)"
part B pins: B4 NC "No Connect.", C3 NC "No Connect.", D2 NC "No Connect.", D4 NC "No Connect."

## DS1847B-050/T&R
designator U?
Dual Temperature-Controlled NV Variable Resistor with 2-Wire Addressable Control Interface, Non-Volatile, Linear Taper, 256 Steps, -40 to 85 degC, 16-pin CSBGA (X16-1), Tape and Reel; PartNumber: DS1847B-050/T&R; DatasheetVersion: Rev. 2; PackageVersion: Rev. B, 06/2010; PackageReference: X16-1; PackageDescription: 16-Ball Chip-Scale Ball-Grid Array (X16-1), Body 4 x 4 mm, Pitch 1.0 mm; Supplier 1: Mouser; Supplier Part Number 1: N/A; Applications: Fiber Communications, Resistance-Temp. Lookup Table; Control Interface: 2-Wire Addressable; Features: 128-Byte User EEPROM, EEPROM Wiper Memory ,Resistance-Temp. Lookup Table; Mounting Technology: Surface Mount; ComponentLink1Description: Manufacturer URL; ComponentLink1URL: http://www.maximintegrated.com/; ComponentLink2Description: Datasheet; ComponentLink2URL: http://datasheets.maximintegrated.com/en/ds/DS1847.pdf; ComponentLink3Description: Package Specification; ComponentLink3URL: http://pdfserv.maximintegrated.com/package_dwgs/21-0355.PDF
footprint MAXM-X16-1 (BGA, 16-Balls, Body 4x4mm, Pitch 1.0mm)
part A pins: A1 A0 (in) "Address Input. Pins A0, A1, and A2 are used to specify the address of each DS1847/DS1848 when used in a multi-dropped configuration.", A2 SCL (in) "2-Wire Serial Clock Input. The serial clock input is used to clock data into the DS1847/DS1848 on rising edges and clock data out on falling edges.", A3 VCC (power) "Power Supply Terminal. The DS1847/DS1848 will support supply voltages ranging from +3.0V to +5.5V.", A4 H0 "High terminal of Resistor 0. For both resistors, it is not required that the high terminal be connected to a potential greater than the low terminal. Voltage applied to the high terminal of each resistor cannot exceed VCC, (See Datasheet)", B1 A1 (in) "Address Input.", B2 SDA (io) "2-Wire Serial Data Interface. The serial data pin is for serial data transfer to and from the DS1847/DS1848. The pin is open drain and maybe wire-ORed with other open drain or open collector interfaces.", B3 H1 "High terminal of Resistor 1.", C1 WP (in) "Write Protect Input. If open or set to logic 1, all memory, control registers, and Look-up tables are write protected. If set to a logic 0, the device is not write protected and can be written to. The WP pin is pulled high (See Datasheet)", C2 A2 (in) "Address Input.", C4 L1 "Low terminal of Resistor 1.", D1 GND (power) "Ground Terminal.", D3 L0 "Low terminal of Resistor 0. For both resistors, it is not required that the low terminal be connected to a potential less than the high terminal. Voltage applied to the low terminal of each resistor cannot exceed VCC, or go (See Datasheet)"
part B pins: B4 NC "No Connect.", C3 NC "No Connect.", D2 NC "No Connect.", D4 NC "No Connect."

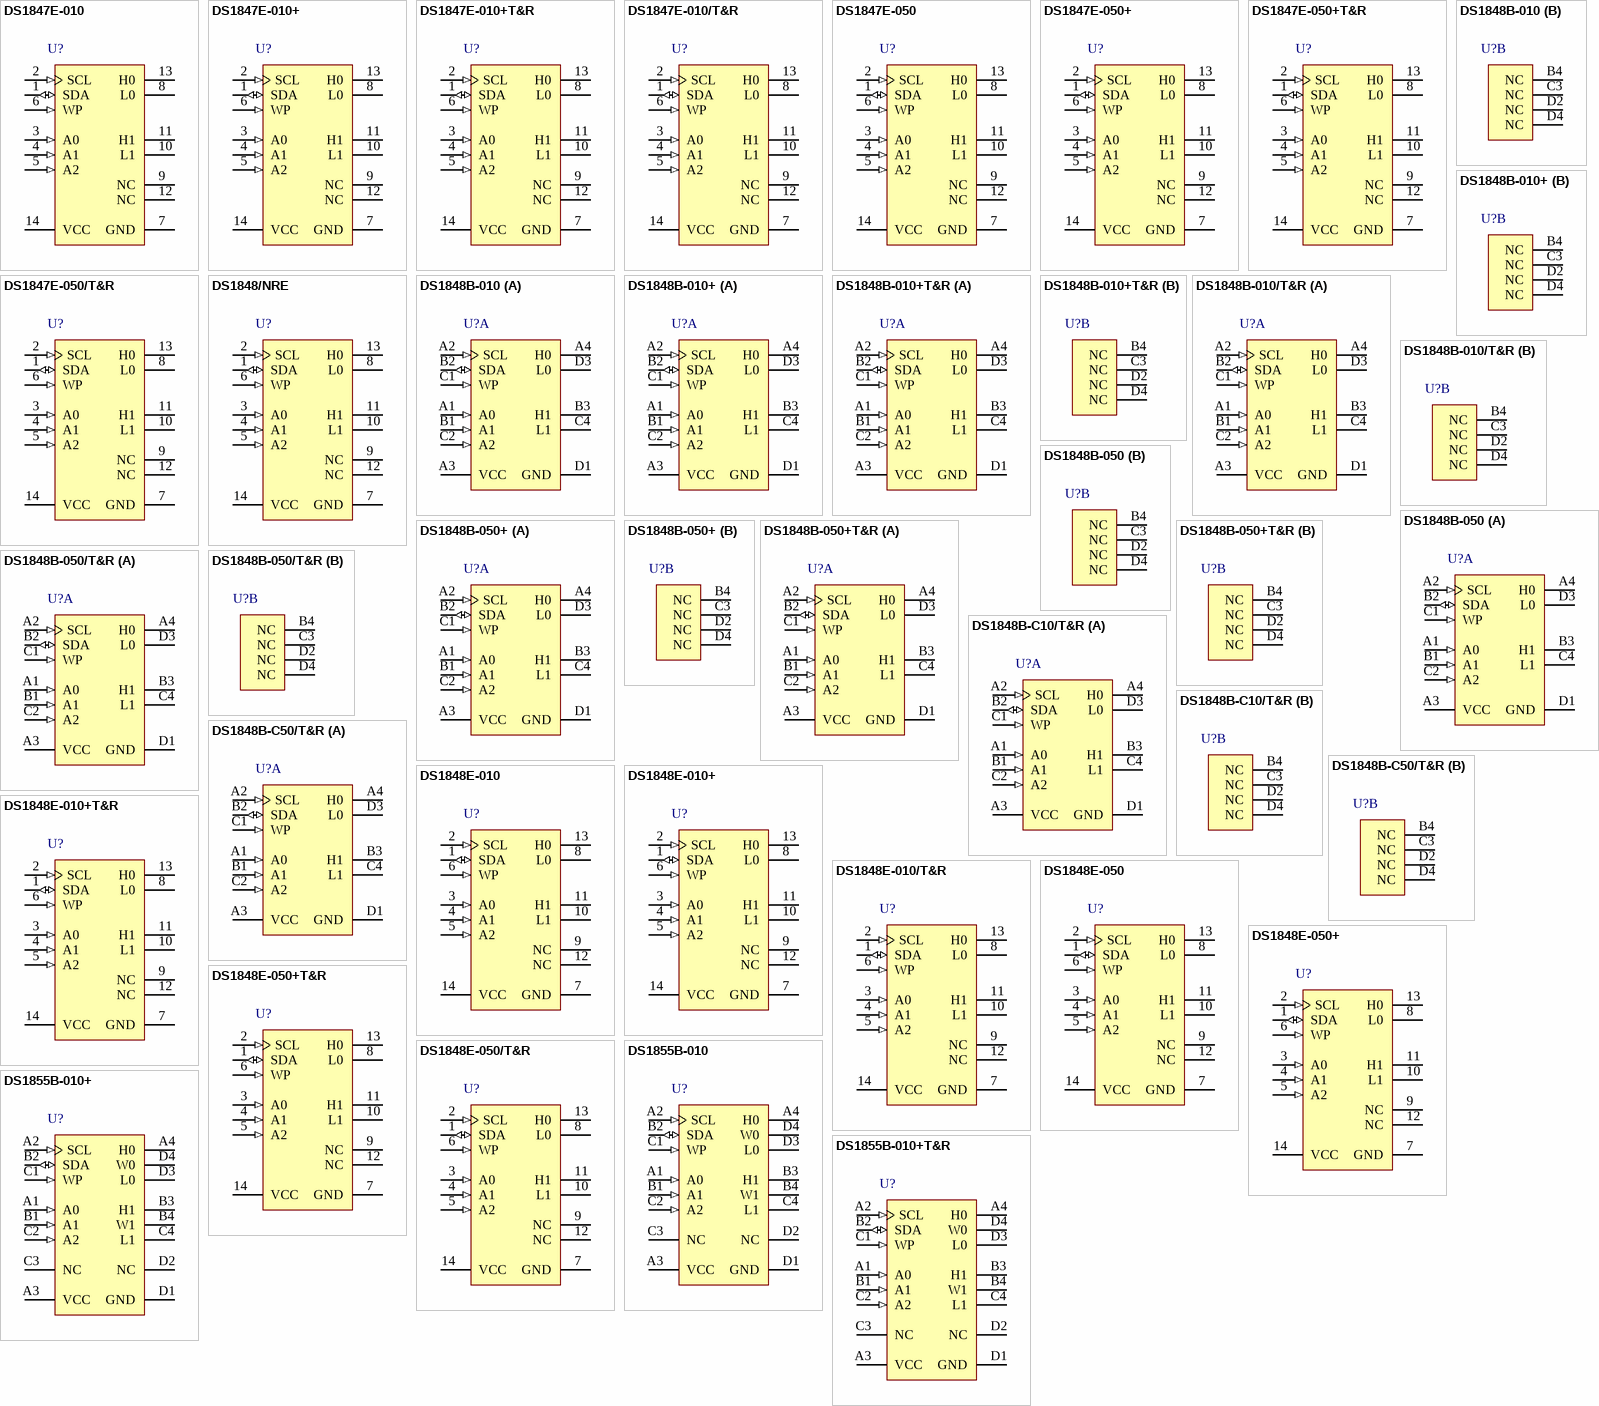
[diagram p8: symbols DS1847E-010 to DS1855B-010+T&R]

## DS1847E-010
designator U?
Dual Temperature-Controlled NV Variable Resistor with 2-Wire Addressable Control Interface, Non-Volatile, Linear Taper, 256 Steps, -40 to 85 degC, 14-pin TSSOP (U14-1); PartNumber: DS1847E-010; DatasheetVersion: Rev. 2; PackageVersion: Rev. L, 07/2010; PackageReference: U14-1; PackageDescription: 14-Pin Thin Shrink Small-Outline Package (U14-1), Body 5 x 4.4 mm, Pitch 0.65 mm; Supplier 1: Mouser; Supplier Part Number 1: N/A; Applications: Fiber Communications, Resistance-Temp. Lookup Table; Control Interface: 2-Wire Addressable; Features: 128-Byte User EEPROM, EEPROM Wiper Memory ,Resistance-Temp. Lookup Table; Mounting Technology: Surface Mount; Code_JEDEC: MO-153; ComponentLink1Description: Manufacturer URL; ComponentLink1URL: http://www.maximintegrated.com/; ComponentLink2Description: Datasheet; ComponentLink2URL: http://datasheets.maximintegrated.com/en/ds/DS1847.pdf; ComponentLink3Description: Package Specification; ComponentLink3URL: http://pdfserv.maximintegrated.com/package_dwgs/21-0066.PDF
footprint MAXM-U14-1_N (SOP, 14-Leads, Body 5x4.4mm, Pitch 0.65mm, IPC Medium Density)
footprint MAXM-U14-1_L (SOP, 14-Leads, Body 5x4.4mm, Pitch 0.65mm, IPC High Density)
footprint MAXM-U14-1_M (SOP, 14-Leads, Body 5x4.4mm, Pitch 0.65mm, IPC Low Density)
pins: 1 SDA (io) "2-Wire Serial Data Interface. The serial data pin is for serial data transfer to and from the DS1847/DS1848. The pin is open drain and may be wire-ORed with other open drain or open collector interfaces.", 2 SCL (in) "2-Wire Serial Clock Input. The serial clock input is used to clock data into the DS1847/DS1848 on rising edges and clock data out on falling edges.", 3 A0 (in) "Address Input. Pins A0, A1, and A2 are used to specify the address of each DS1847/DS1848 when used in a multi-dropped configuration.", 4 A1 (in) "Address Input.", 5 A2 (in) "Address Input.", 6 WP (in) "Write Protect Input. If open or set to logic 1, all memory, control registers, and Look-up tables are write protected. If set to a logic 0, the device is not write protected and can be written to. The WP pin is pulled high (See Datasheet)", 7 GND (power) "Ground Terminal.", 8 L0 "Low terminal of Resistor 0. For both resistors, it is not required that the low terminal be connected to a potential less than the high terminal. Voltage applied to the low terminal of each resistor cannot exceed VCC, or go (See Datasheet)", 9 NC "No Connect.", 10 L1 "Low terminal of Resistor 1.", 11 H1 "High terminal of Resistor 1.", 12 NC "No Connect.", 13 H0 "High terminal of Resistor 0. For both resistors, it is not required that the high terminal be connected to a potential greater than the low terminal. Voltage applied to the high terminal of each resistor cannot exceed VCC, (See Datasheet)", 14 VCC (power) "Power Supply Terminal. The DS1847/DS1848 will support supply voltages ranging from +3.0V to +5.5V."

## DS1847E-010+
designator U?
Dual Temperature-Controlled NV Variable Resistor with 2-Wire Addressable Control Interface, Non-Volatile, Linear Taper, 256 Steps, -40 to 85 degC, 14-pin TSSOP (U14+1), Pb-Free; PartNumber: DS1847E-010+; DatasheetVersion: Rev. 2; PackageVersion: Rev. L, 07/2010; PackageReference: U14+1; PackageDescription: 14-Pin Thin Shrink Small-Outline Package (U14+1), Body 5 x 4.4 mm, Pitch 0.65 mm; Supplier 1: Digi-Key; Supplier Part Number 1: DS1847E-010+-ND; Supplier 2: Mouser; Supplier Part Number 2: 700-DS1847E-010; Applications: Fiber Communications, Resistance-Temp. Lookup Table; Control Interface: 2-Wire Addressable; Features: 128-Byte User EEPROM, EEPROM Wiper Memory ,Resistance-Temp. Lookup Table; Mounting Technology: Surface Mount; Code_JEDEC: MO-153; ComponentLink1Description: Manufacturer URL; ComponentLink1URL: http://www.maximintegrated.com/; ComponentLink2Description: Datasheet; ComponentLink2URL: http://datasheets.maximintegrated.com/en/ds/DS1847.pdf; ComponentLink3Description: Package Specification; ComponentLink3URL: http://pdfserv.maximintegrated.com/package_dwgs/21-0066.PDF
footprint MAXM-U14+1_N (SOP, 14-Leads, Body 5x4.4mm, Pitch 0.65mm, IPC Medium Density)
footprint MAXM-U14+1_L (SOP, 14-Leads, Body 5x4.4mm, Pitch 0.65mm, IPC High Density)
footprint MAXM-U14+1_M (SOP, 14-Leads, Body 5x4.4mm, Pitch 0.65mm, IPC Low Density)
pins: 1 SDA (io) "2-Wire Serial Data Interface. The serial data pin is for serial data transfer to and from the DS1847/DS1848. The pin is open drain and may be wire-ORed with other open drain or open collector interfaces.", 2 SCL (in) "2-Wire Serial Clock Input. The serial clock input is used to clock data into the DS1847/DS1848 on rising edges and clock data out on falling edges.", 3 A0 (in) "Address Input. Pins A0, A1, and A2 are used to specify the address of each DS1847/DS1848 when used in a multi-dropped configuration.", 4 A1 (in) "Address Input.", 5 A2 (in) "Address Input.", 6 WP (in) "Write Protect Input. If open or set to logic 1, all memory, control registers, and Look-up tables are write protected. If set to a logic 0, the device is not write protected and can be written to. The WP pin is pulled high (See Datasheet)", 7 GND (power) "Ground Terminal.", 8 L0 "Low terminal of Resistor 0. For both resistors, it is not required that the low terminal be connected to a potential less than the high terminal. Voltage applied to the low terminal of each resistor cannot exceed VCC, or go (See Datasheet)", 9 NC "No Connect.", 10 L1 "Low terminal of Resistor 1.", 11 H1 "High terminal of Resistor 1.", 12 NC "No Connect.", 13 H0 "High terminal of Resistor 0. For both resistors, it is not required that the high terminal be connected to a potential greater than the low terminal. Voltage applied to the high terminal of each resistor cannot exceed VCC, (See Datasheet)", 14 VCC (power) "Power Supply Terminal. The DS1847/DS1848 will support supply voltages ranging from +3.0V to +5.5V."

## DS1847E-010+T&R
designator U?
Dual Temperature-Controlled NV Variable Resistor with 2-Wire Addressable Control Interface, Non-Volatile, Linear Taper, 256 Steps, -40 to 85 degC, 14-pin TSSOP (U14+1), Pb-Free, Tape and Reel; PartNumber: DS1847E-010+T&R; DatasheetVersion: Rev. 2; PackageVersion: Rev. L, 07/2010; PackageReference: U14+1; PackageDescription: 14-Pin Thin Shrink Small-Outline Package (U14+1), Body 5 x 4.4 mm, Pitch 0.65 mm; Supplier 1: Digi-Key; Supplier Part Number 1: DS1847E-010+T&R-ND; Supplier 2: Mouser; Supplier Part Number 2: 700-DS1847E-010T&R; Applications: Fiber Communications, Resistance-Temp. Lookup Table; Control Interface: 2-Wire Addressable; Features: 128-Byte User EEPROM, EEPROM Wiper Memory ,Resistance-Temp. Lookup Table; Mounting Technology: Surface Mount; Code_JEDEC: MO-153; ComponentLink1Description: Manufacturer URL; ComponentLink1URL: http://www.maximintegrated.com/; ComponentLink2Description: Datasheet; ComponentLink2URL: http://datasheets.maximintegrated.com/en/ds/DS1847.pdf; ComponentLink3Description: Package Specification; ComponentLink3URL: http://pdfserv.maximintegrated.com/package_dwgs/21-0066.PDF
footprint MAXM-U14+1_N (SOP, 14-Leads, Body 5x4.4mm, Pitch 0.65mm, IPC Medium Density)
footprint MAXM-U14+1_L (SOP, 14-Leads, Body 5x4.4mm, Pitch 0.65mm, IPC High Density)
footprint MAXM-U14+1_M (SOP, 14-Leads, Body 5x4.4mm, Pitch 0.65mm, IPC Low Density)
pins: 1 SDA (io) "2-Wire Serial Data Interface. The serial data pin is for serial data transfer to and from the DS1847/DS1848. The pin is open drain and may be wire-ORed with other open drain or open collector interfaces.", 2 SCL (in) "2-Wire Serial Clock Input. The serial clock input is used to clock data into the DS1847/DS1848 on rising edges and clock data out on falling edges.", 3 A0 (in) "Address Input. Pins A0, A1, and A2 are used to specify the address of each DS1847/DS1848 when used in a multi-dropped configuration.", 4 A1 (in) "Address Input.", 5 A2 (in) "Address Input.", 6 WP (in) "Write Protect Input. If open or set to logic 1, all memory, control registers, and Look-up tables are write protected. If set to a logic 0, the device is not write protected and can be written to. The WP pin is pulled high (See Datasheet)", 7 GND (power) "Ground Terminal.", 8 L0 "Low terminal of Resistor 0. For both resistors, it is not required that the low terminal be connected to a potential less than the high terminal. Voltage applied to the low terminal of each resistor cannot exceed VCC, or go (See Datasheet)", 9 NC "No Connect.", 10 L1 "Low terminal of Resistor 1.", 11 H1 "High terminal of Resistor 1.", 12 NC "No Connect.", 13 H0 "High terminal of Resistor 0. For both resistors, it is not required that the high terminal be connected to a potential greater than the low terminal. Voltage applied to the high terminal of each resistor cannot exceed VCC, (See Datasheet)", 14 VCC (power) "Power Supply Terminal. The DS1847/DS1848 will support supply voltages ranging from +3.0V to +5.5V."